# Altium footprint library CONN-TH_MTE210-10RL.PcbLib: 1 footprints
Each footprint in its own frame and in the unit in brackets; x right, y up, seen from the top. Pads: shape width x height; smd on the part's side, far side on the other; paste and mask are expansions set on the pad; w line width, h text height; cw(c..) or ccw(c..) is an arc to the next point about the centre after c.
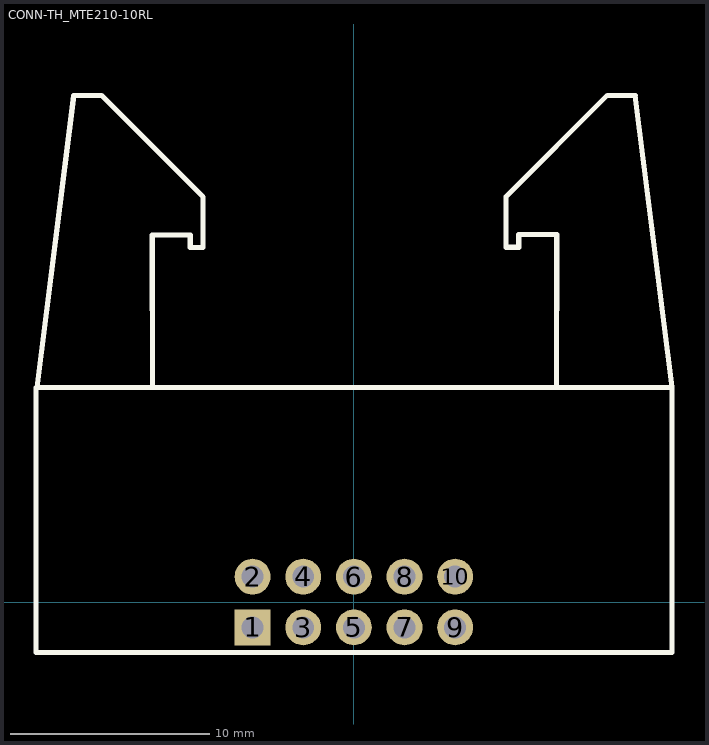
[diagram p0: the footprint, top view; thin cyan lines are the x and y axes]

## CONN-TH_MTE210-10RL [mm]
pads (10):
  rect 1.8x1.8 hole 1.1: 1(-5.08,-1.27)
  round 1.8 hole 1.1: 2(-5.08,1.27) 3(-2.54,-1.27) 4(-2.54,1.27) 5(0,-1.27) 6(0,1.27) 7(2.54,-1.27) 8(2.54,1.27) 9(5.08,-1.27) 10(5.08,1.27)
Top Overlay:
  lines w0.254: -15.9,10.76 -14.047,25.4 -12.65,25.4 -7.57,20.32 -7.57,17.78 -8.205,17.78 -8.205,18.415 -10.11,18.415 -10.108,10.76 ; 10.171,10.77 10.173,18.425 8.268,18.425 8.268,17.79 7.633,17.79 7.633,20.33 12.713,25.41 14.11,25.41 15.963,10.77 15.963,-2.53 ; 15.95,-2.54 -15.95,-2.54 -15.95,10.76 15.95,10.76
3D body: height 8.3, standoff 0, extent -15.9,-2.54 15.963,10.77
3D body: height 3.8, standoff -1.6, extent -5.474,-1.638 -4.686,-0.902
3D body: height 3.8, standoff -1.6, extent -2.934,-1.638 -2.146,-0.902
3D body: height 3.8, standoff -1.6, extent -0.394,-1.638 0.394,-0.902
3D body: height 3.8, standoff -1.6, extent 2.146,-1.638 2.934,-0.902
3D body: height 3.8, standoff -1.6, extent 4.686,-1.638 5.474,-0.902
3D body: height 3.8, standoff -1.6, extent 4.699,0.914 5.486,1.651
3D body: height 3.8, standoff -1.6, extent 2.159,0.914 2.946,1.651
3D body: height 3.8, standoff -1.6, extent -0.381,0.914 0.406,1.651
3D body: height 3.8, standoff -1.6, extent -2.921,0.914 -2.134,1.651
3D body: height 3.8, standoff -1.6, extent -5.461,0.914 -4.674,1.651
3D body: height 6.8, standoff 1.5, extent 7.633,10.77 15.963,25.41
3D body: height 6.8, standoff 1.5, extent -15.9,10.76 -7.57,25.4